# EAGLE library part DAC7760IRHAR (library Hexabitz)
16-Bit Single-Channel Programmable Current/Voltage Output DAC for 4-20mA current loop applications
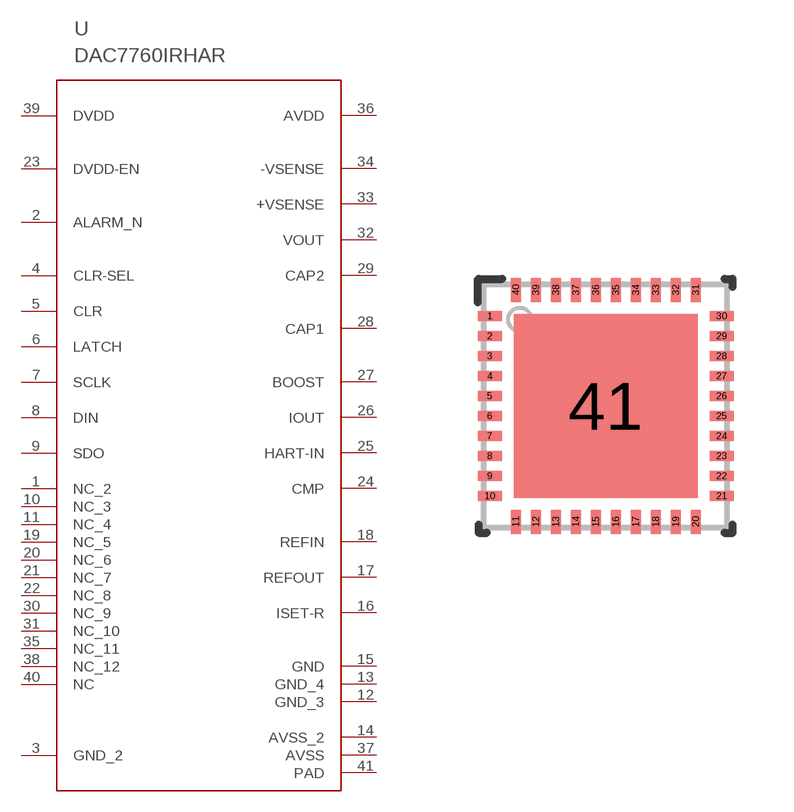
[diagram p20: symbol with the pads of RHA0040A; footprint RHA0040A]

Designator prefix U

## DAC7760IRHAR (MANUFACTURER: Texas Instruments; MFN: Texas Instruments; MPN: DAC8760IRHAR; OCTOPART_URL: https://octopart.com/dac8760irhar-texas+instruments-29661993?r=sp&s=ruhaz_LcRdqODQmkWKrlGA; PARTNUMBER: DAC7760IRHAR; REFDES: RefDes; TYPE: TYPE; VALUE: DAC8760RHA)  [RHA0040A]
1  NC_2  pas
2  ALARM_N  oc
3  GND_2  pwr
4  CLR-SEL  in
5  CLR  in
6  LATCH  in
7  SCLK  in
8  DIN  in
9  SDO  out
10  NC_3  pas
11  NC_4  pas
12  GND_3  pwr
13  GND_4  pwr
14  AVSS_2  pwr
15  GND  pwr
16  ISET-R  in
17  REFOUT  out
18  REFIN  in
19  NC_5  pas
20  NC_6  pas
21  NC_7  pas
22  NC_8  pas
23  DVDD-EN  in
24  CMP  in
25  HART-IN  in
26  IOUT  out
27  BOOST  out
28  CAP1  in
29  CAP2  in
30  NC_9  pas
31  NC_10  pas
32  VOUT  out
33  +VSENSE  in
34  -VSENSE  in
35  NC_11  pas
36  AVDD  pwr
37  AVSS  pwr
38  NC_12  pas
39  DVDD  pwr
40  NC  pas
41  PAD  pwr

## Footprint RHA0040A (pad centres in mm)
smd 0.6 x 0.25: 1 -2.9,2.25; 2 -2.9,1.75; 3 -2.9,1.25; 4 -2.9,0.75; 5 -2.9,0.25; 6 -2.9,-0.25; 7 -2.9,-0.75; 8 -2.9,-1.25; 9 -2.9,-1.75; 10 -2.9,-2.25; 21 2.9,-2.25; 22 2.9,-1.75; 23 2.9,-1.25; 24 2.9,-0.75; 25 2.9,-0.25; 26 2.9,0.25; 27 2.9,0.75; 28 2.9,1.25; 29 2.9,1.75; 30 2.9,2.25
smd 0.25 x 0.6: 11 -2.25,-2.9; 12 -1.75,-2.9; 13 -1.25,-2.9; 14 -0.75,-2.9; 15 -0.25,-2.9; 16 0.25,-2.9; 17 0.75,-2.9; 18 1.25,-2.9; 19 1.75,-2.9; 20 2.25,-2.9; 31 2.25,2.9; 32 1.75,2.9; 33 1.25,2.9; 34 0.75,2.9; 35 0.25,2.9; 36 -0.25,2.9; 37 -0.75,2.9; 38 -1.25,2.9; 39 -1.75,2.9; 40 -2.25,2.9
smd 4.6 x 4.6: 41 0,0